# EAGLE library part 43045-1012 (library con-Molex)
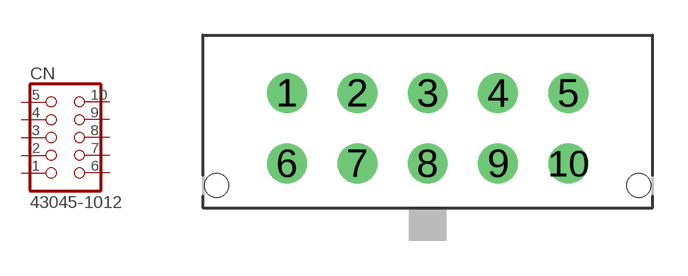
[diagram p13: symbol with the pads of 43045-1012; footprint 43045-1012]

Designator prefix CN

## 43045-1012  [43045-1012]
1  1  pas
2  2  pas
3  3  pas
4  4  pas
5  5  pas
6  6  pas
7  7  pas
8  8  pas
9  9  pas
10  10  pas

## Footprint 43045-1012 (pad centres in mm)
drill 1.1 pad 1.7: 1 -6,1.5; 2 -3,1.5; 3 0,1.5; 4 3,1.5; 5 6,1.5; 6 -6,-1.5; 7 -3,-1.5; 8 0,-1.5; 9 3,-1.5; 10 6,-1.5
hole 1 at -9,-2.44
hole 1 at 9,-2.44